# Altium footprint library PCB - LEADED - SOP - NXP TSSOP-16.PCBLIB: 1 footprints
Each footprint in its own frame and in the unit in brackets; x right, y up, seen from the top. Pads: shape width x height; smd on the part's side, far side on the other; paste and mask are expansions set on the pad; w line width, h text height; cw(c..) or ccw(c..) is an arc to the next point about the centre after c.
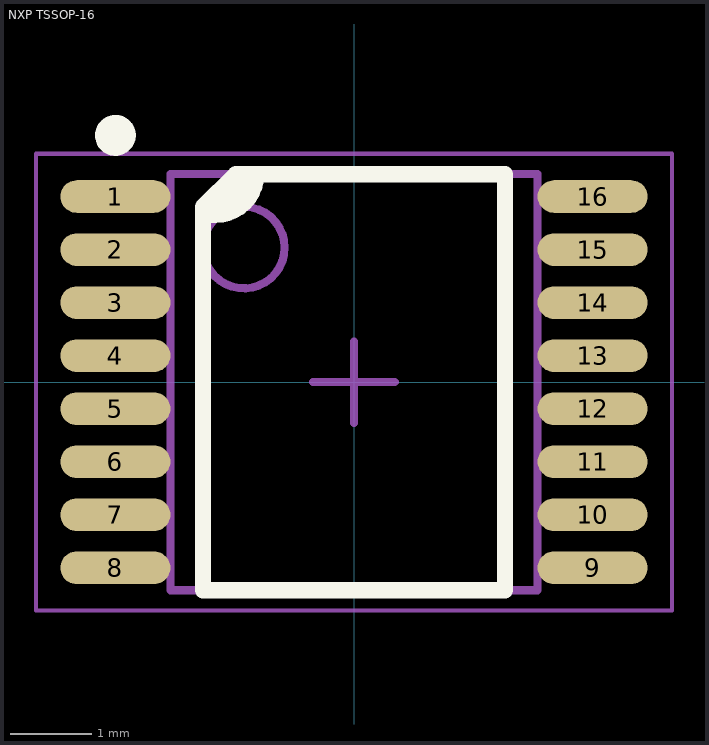
[diagram p0: the footprint, top view; thin cyan lines are the x and y axes]

## NXP TSSOP-16 [mm] "TSSOP, 16-Leads, Body 5.00x4.40mm, Pitch 0.65mm, IPC Medium Density"
height 1.1
pads (16):
  oval 1.35x0.4 smd: 1(-2.925,2.275) 2(-2.925,1.625) 3(-2.925,0.975) 4(-2.925,0.325) 5(-2.925,-0.325) 6(-2.925,-0.975) 7(-2.925,-1.625) 8(-2.925,-2.275) 9(2.925,-2.275) 10(2.925,-1.625) 11(2.925,-0.975) 12(2.925,-0.325) 13(2.925,0.325) 14(2.925,0.975) 15(2.925,1.625) 16(2.925,2.275)
Top Overlay:
  circle w0.25: c-2.925,3.025 r0.125
  region: -1.5,2.55 -1.2,2.55 -1.2,2.451 -1.276,2.267 -1.417,2.126 -1.601,2.05 -1.7,2.05 -1.8,2.05 -1.8,2.25
  lines w0.2: -1.8,2.05 -1.7,2.05 ccw(c-1.7,2.55) -1.2,2.55 ; -1.85,-2.55 -1.85,2.15 -1.45,2.55 1.85,2.55 1.85,-2.55 -1.85,-2.55
Top Component Center:
  lines w0.1: -0.501,0 0.499,0 ; -0.001,-0.5 -0.001,0.5
Top Assembly:
  circle w0.1: c-1.35,1.65 r0.5
  lines w0.1: -2.25,-2.55 2.25,-2.55 2.25,2.55 -2.25,2.55 -2.25,-2.55
Top Courtyard:
  lines w0.05: -3.9,-2.8 -3.9,2.8 3.9,2.8 3.9,-2.8 -3.9,-2.8
3D body "TSSOP-16.STEP": height 1.1, standoff 0, extent -3.21,-2.5 3.211,2.5